# EAGLE library part AT90USB647 (library STUNTAZ)
8-bit AVR Microcontroller with 64/128K Bytes of ISP Flash and USB Controller, capable of USB OTG
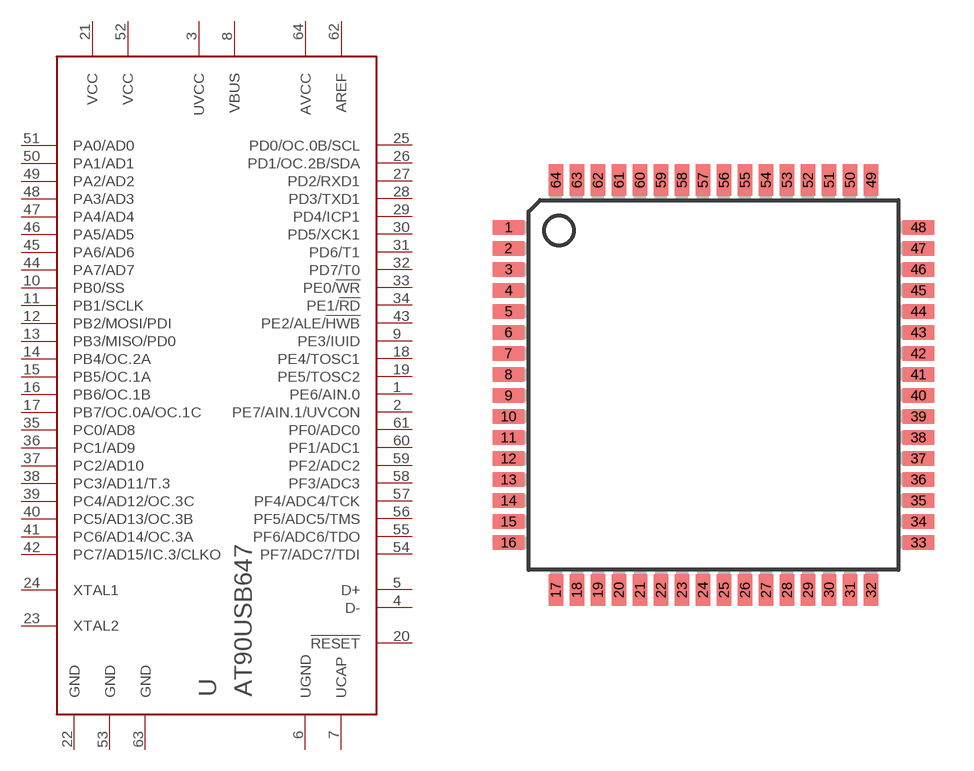
[diagram p2: symbol with the pads of ATMEL-MD-TQFP64; footprint ATMEL-MD-TQFP64]

Designator prefix -

## AT90USB647  [ATMEL-MD-TQFP64]
1  PE6/AIN.0
2  PE7/AIN.1/UVCON
3  UVCC  pwr
4  D-
5  D+
6  UGND  sup
7  UCAP  pas
8  VBUS  pwr
9  PE3/IUID
10  PB0/SS
11  PB1/SCLK
12  PB2/MOSI/PDI
13  PB3/MISO/PD0
14  PB4/OC.2A
15  PB5/OC.1A
16  PB6/OC.1B
17  PB7/OC.0A/OC.1C
18  PE4/TOSC1
19  PE5/TOSC2
20  !RESET  in
21  VCC  pwr
22  GND  sup
23  XTAL2  pas
24  XTAL1  pas
25  PD0/OC.0B/SCL
26  PD1/OC.2B/SDA
27  PD2/RXD1
28  PD3/TXD1
29  PD4/ICP1
30  PD5/XCK1
31  PD6/T1
32  PD7/T0
33  PE0/!WR
34  PE1/!RD
35  PC0/AD8
36  PC1/AD9
37  PC2/AD10
38  PC3/AD11/T.3
39  PC4/AD12/OC.3C
40  PC5/AD13/OC.3B
41  PC6/AD14/OC.3A
42  PC7/AD15/IC.3/CLKO
43  PE2/ALE/!HWB
44  PA7/AD7
45  PA6/AD6
46  PA5/AD5
47  PA4/AD4
48  PA3/AD3
49  PA2/AD2
50  PA1/AD1
51  PA0/AD0
52  VCC  pwr
53  GND  sup
54  PF7/ADC7/TDI
55  PF6/ADC6/TDO
56  PF5/ADC5/TMS
57  PF4/ADC4/TCK
58  PF3/ADC3
59  PF2/ADC2
60  PF1/ADC1
61  PF0/ADC0
62  AREF
63  GND  sup
64  AVCC  pwr

## Footprint ATMEL-MD-TQFP64 (pad centres in mm)
Thin Plasic Quad Flat Package Updated from atml.lbr 17.01.2005 alf@cadsoft.de
smd 1.194 x 0.559: 1 -7.8,6; 2 -7.8,5.2; 3 -7.8,4.4; 4 -7.8,3.6; 5 -7.8,2.8; 6 -7.8,2; 7 -7.8,1.2; 8 -7.8,0.4; 9 -7.8,-0.4; 10 -7.8,-1.2; 11 -7.8,-2; 12 -7.8,-2.8; 13 -7.8,-3.6; 14 -7.8,-4.4; 15 -7.8,-5.2; 16 -7.8,-6; 33 7.8,-6; 34 7.8,-5.2; 35 7.8,-4.4; 36 7.8,-3.6; 37 7.8,-2.8; 38 7.8,-2; 39 7.8,-1.2; 40 7.8,-0.4; 41 7.8,0.4; 42 7.8,1.2; 43 7.8,2; 44 7.8,2.8; 45 7.8,3.6; 46 7.8,4.4; 47 7.8,5.2; 48 7.8,6
smd 0.559 x 1.194: 17 -6,-7.8; 18 -5.2,-7.8; 19 -4.4,-7.8; 20 -3.6,-7.8; 21 -2.8,-7.8; 22 -2,-7.8; 23 -1.2,-7.8; 24 -0.4,-7.8; 25 0.4,-7.8; 26 1.2,-7.8; 27 2,-7.8; 28 2.8,-7.8; 29 3.6,-7.8; 30 4.4,-7.8; 31 5.2,-7.8; 32 6,-7.8; 49 6,7.8; 50 5.2,7.8; 51 4.4,7.8; 52 3.6,7.8; 53 2.8,7.8; 54 2,7.8; 55 1.2,7.8; 56 0.4,7.8; 57 -0.4,7.8; 58 -1.2,7.8; 59 -2,7.8; 60 -2.8,7.8; 61 -3.6,7.8; 62 -4.4,7.8; 63 -5.2,7.8; 64 -6,7.8